# Altium footprint library LDO.PcbLib: 100 footprints (part 2 of 7)
Each footprint in its own frame and in the unit in brackets; x right, y up, seen from the top. Pads: shape width x height; smd on the part's side, far side on the other; paste and mask are expansions set on the pad; w line width, h text height; cw(c..) or ccw(c..) is an arc to the next point about the centre after c.
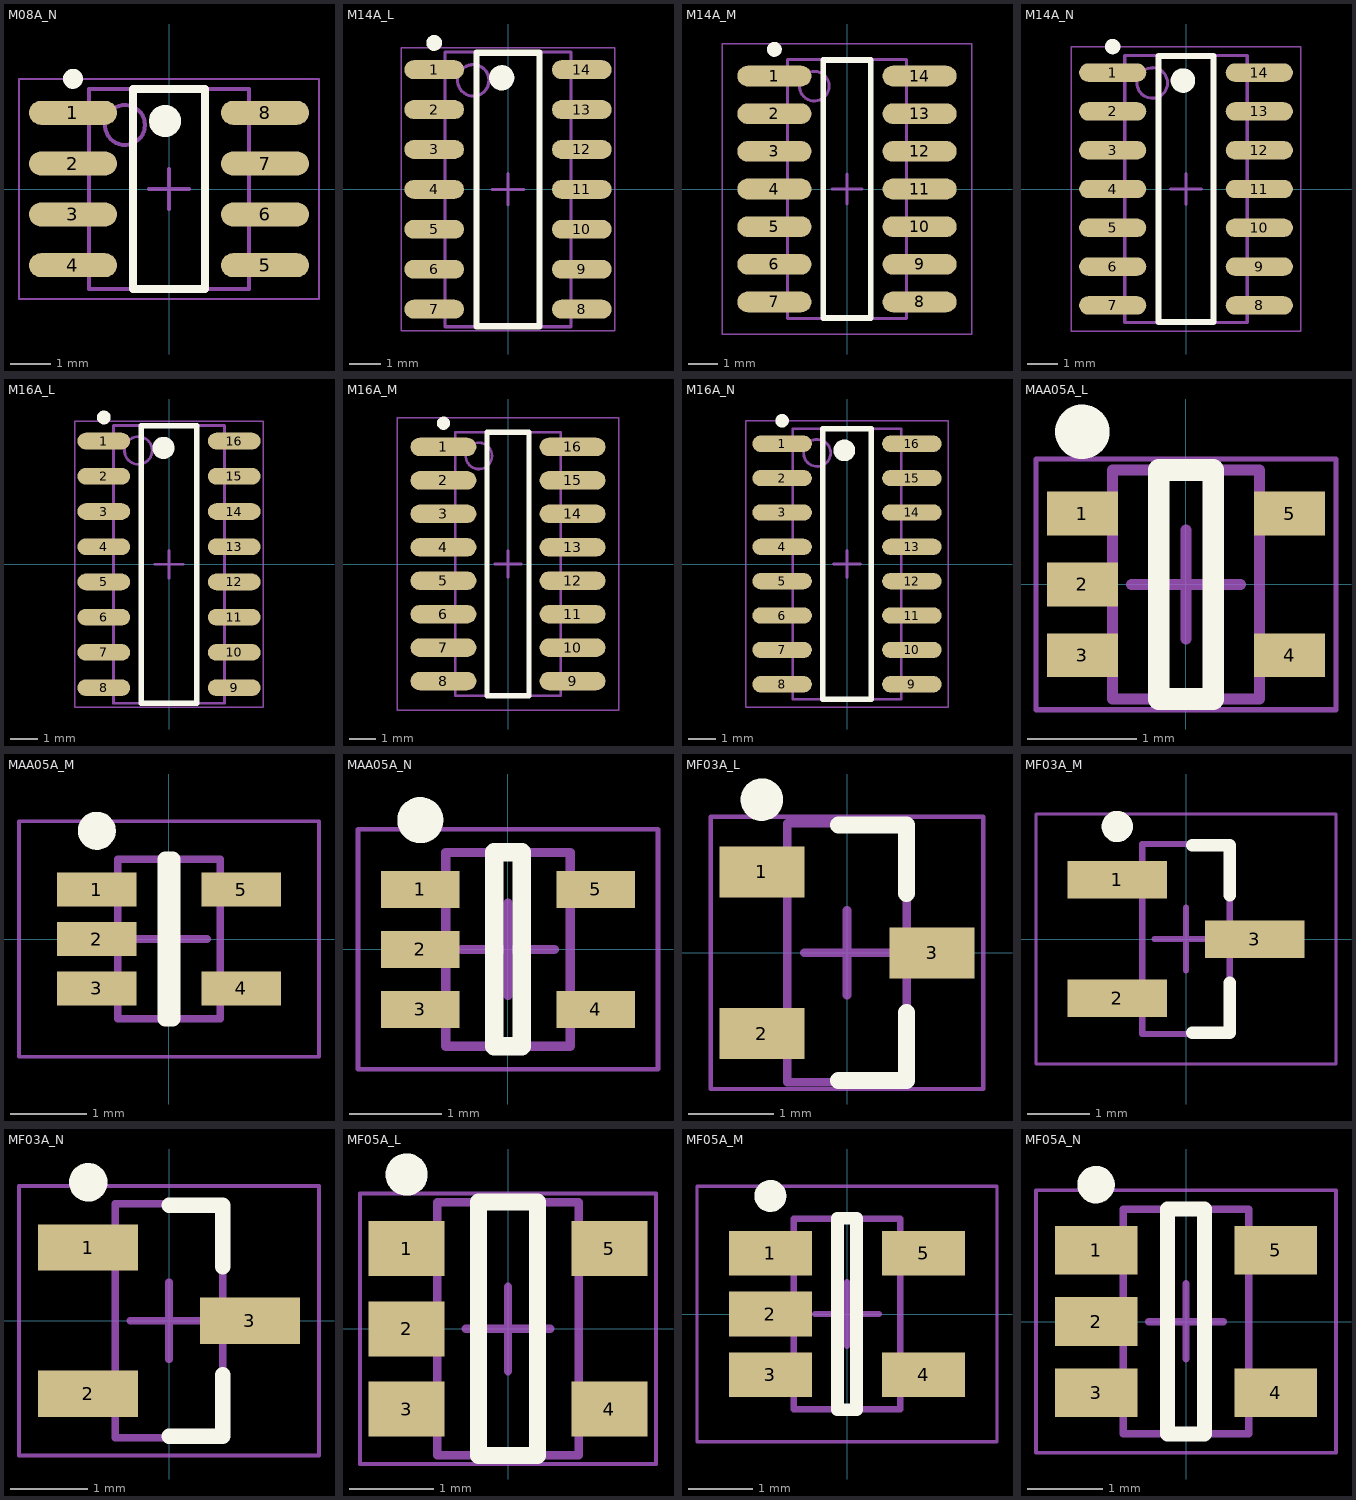
[diagram p1: the footprints below, top view; thin cyan lines are the x and y axes]

## M08A_N [mm] "SOIC, 8-Leads, Body 4.9x3.9mm, Pitch 1.27mm, IPC Medium Density"
height 1.75
pads (8):
  oval 2.2x0.6 smd: 1(-2.4,1.905) 2(-2.4,0.635) 3(-2.4,-0.635) 4(-2.4,-1.905) 5(2.4,-1.905) 6(2.4,-0.635) 7(2.4,0.635) 8(2.4,1.905)
Top Overlay:
  circle w0.25: c-2.4,2.755 r0.125
  circle w0.4: c-0.1,1.7 r0.2
  lines w0.2: -0.9,-2.5 -0.9,2.5 0.9,2.5 0.9,-2.5 -0.9,-2.5
Mechanical 13:
  circle w0.1: c-1.1,1.6 r0.5
  lines w0.1: -2,-2.5 -2,2.5 2,2.5 2,-2.5 -2,-2.5
Mechanical 15:
  lines w0.05: -3.75,-2.75 -3.75,2.75 3.75,2.75 3.75,-2.75 -3.75,-2.75
  lines w0.1: -0.5,0 0.5,0 ; 0,-0.5 0,0.5
3D body: height 1.75, standoff 0.1, extent -2,-2.5 2,2.5

## M14A_L [mm] "SOIC, 14-Leads, Body 8.6x3.9mm, Pitch 1.27mm, IPC High Density"
height 1.75
pads (14):
  oval 1.9x0.6 smd: 1(-2.35,3.81) 2(-2.35,2.54) 3(-2.35,1.27) 4(-2.35,0) 5(-2.35,-1.27) 6(-2.35,-2.54) 7(-2.35,-3.81) 8(2.35,-3.81) 9(2.35,-2.54) 10(2.35,-1.27) 11(2.35,0) 12(2.35,1.27) 13(2.35,2.54) 14(2.35,3.81)
Top Overlay:
  circle w0.4: c-0.2,3.55 r0.2
  circle w0.25: c-2.35,4.66 r0.125
  lines w0.2: -1,-4.35 1,-4.35 1,4.35 -1,4.35 -1,-4.35
Mechanical 13:
  circle w0.1: c-1.105,3.47 r0.5
  lines w0.1: -2.005,-4.37 2.005,-4.37 2.005,4.37 -2.005,4.37 -2.005,-4.37
Mechanical 15:
  lines w0.05: -3.4,-4.5 3.4,-4.5 3.4,4.5 -3.4,4.5 -3.4,-4.5
  lines w0.1: -0.5,0 0.5,0 ; 0,-0.5 0,0.5
3D body: height 1.75, standoff 0.1, extent -2.005,-4.37 2.005,4.37

## M14A_M [mm] "SOIC, 14-Leads, Body 8.6x3.9mm, Pitch 1.27mm, IPC Low Density"
height 1.75
pads (14):
  oval 2.5x0.7 smd: 1(-2.45,3.81) 2(-2.45,2.54) 3(-2.45,1.27) 4(-2.45,0) 5(-2.45,-1.27) 6(-2.45,-2.54) 7(-2.45,-3.81) 8(2.45,-3.81) 9(2.45,-2.54) 10(2.45,-1.27) 11(2.45,0) 12(2.45,1.27) 13(2.45,2.54) 14(2.45,3.81)
Top Overlay:
  circle w0.25: c-2.45,4.71 r0.125
  lines w0.2: -0.8,-4.35 0.8,-4.35 0.8,4.35 -0.8,4.35 -0.8,-4.35
Mechanical 13:
  circle w0.1: c-1.105,3.47 r0.5
  lines w0.1: -2.005,-4.37 2.005,-4.37 2.005,4.37 -2.005,4.37 -2.005,-4.37
Mechanical 15:
  lines w0.05: -4.2,-4.9 4.2,-4.9 4.2,4.9 -4.2,4.9 -4.2,-4.9
  lines w0.1: -0.5,0 0.5,0 ; 0,-0.5 0,0.5
3D body: height 1.75, standoff 0.1, extent -2.005,-4.37 2.005,4.37

## M14A_N [mm] "SOIC, 14-Leads, Body 8.6x3.9mm, Pitch 1.27mm, IPC Medium Density"
height 1.75
pads (14):
  oval 2.2x0.6 smd: 1(-2.4,3.81) 2(-2.4,2.54) 3(-2.4,1.27) 4(-2.4,0) 5(-2.4,-1.27) 6(-2.4,-2.54) 7(-2.4,-3.81) 8(2.4,-3.81) 9(2.4,-2.54) 10(2.4,-1.27) 11(2.4,0) 12(2.4,1.27) 13(2.4,2.54) 14(2.4,3.81)
Top Overlay:
  circle w0.4: c-0.1,3.55 r0.2
  circle w0.25: c-2.4,4.66 r0.125
  lines w0.2: -0.9,-4.35 0.9,-4.35 0.9,4.35 -0.9,4.35 -0.9,-4.35
Mechanical 13:
  circle w0.1: c-1.105,3.47 r0.5
  lines w0.1: -2.005,-4.37 2.005,-4.37 2.005,4.37 -2.005,4.37 -2.005,-4.37
Mechanical 15:
  lines w0.05: -3.75,-4.65 3.75,-4.65 3.75,4.65 -3.75,4.65 -3.75,-4.65
  lines w0.1: -0.5,0 0.5,0 ; 0,-0.5 0,0.5
3D body: height 1.75, standoff 0.1, extent -2.005,-4.37 2.005,4.37

## M16A_L [mm] "SOIC, 16-Leads, Body 9.9x3.9mm, Pitch 1.27mm, IPC High Density"
height 1.75
pads (16):
  oval 1.9x0.6 smd: 1(-2.35,4.445) 2(-2.35,3.175) 3(-2.35,1.905) 4(-2.35,0.635) 5(-2.35,-0.635) 6(-2.35,-1.905) 7(-2.35,-3.175) 8(-2.35,-4.445) 9(2.35,-4.445) 10(2.35,-3.175) 11(2.35,-1.905) 12(2.35,-0.635) 13(2.35,0.635) 14(2.35,1.905) 15(2.35,3.175) 16(2.35,4.445)
Top Overlay:
  circle w0.25: c-2.35,5.295 r0.125
  circle w0.4: c-0.2,4.2 r0.2
  lines w0.2: -1,-5 -1,5 1,5 1,-5 -1,-5
Mechanical 13:
  circle w0.1: c-1.105,4.105 r0.5
  lines w0.1: -2.005,-5.005 -2.005,5.005 2.005,5.005 2.005,-5.005 -2.005,-5.005
Mechanical 15:
  lines w0.05: -3.4,-5.15 -3.4,5.15 3.4,5.15 3.4,-5.15 -3.4,-5.15
  lines w0.1: -0.5,0 0.5,0 ; 0,-0.5 0,0.5
3D body: height 1.75, standoff 0.1, extent -2.005,-5.005 2.005,5.005

## M16A_M [mm] "SOIC, 16-Leads, Body 9.9x3.9mm, Pitch 1.27mm, IPC Low Density"
height 1.75
pads (16):
  oval 2.5x0.7 smd: 1(-2.45,4.445) 2(-2.45,3.175) 3(-2.45,1.905) 4(-2.45,0.635) 5(-2.45,-0.635) 6(-2.45,-1.905) 7(-2.45,-3.175) 8(-2.45,-4.445) 9(2.45,-4.445) 10(2.45,-3.175) 11(2.45,-1.905) 12(2.45,-0.635) 13(2.45,0.635) 14(2.45,1.905) 15(2.45,3.175) 16(2.45,4.445)
Top Overlay:
  circle w0.25: c-2.45,5.345 r0.125
  lines w0.2: -0.8,-5 -0.8,5 0.8,5 0.8,-5 -0.8,-5
Mechanical 13:
  circle w0.1: c-1.105,4.105 r0.5
  lines w0.1: -2.005,-5.005 -2.005,5.005 2.005,5.005 2.005,-5.005 -2.005,-5.005
Mechanical 15:
  lines w0.05: -4.2,-5.55 -4.2,5.55 4.2,5.55 4.2,-5.55 -4.2,-5.55
  lines w0.1: -0.5,0 0.5,0 ; 0,-0.5 0,0.5
3D body: height 1.75, standoff 0.1, extent -2.005,-5.005 2.005,5.005

## M16A_N [mm] "SOIC, 16-Leads, Body 9.9x3.9mm, Pitch 1.27mm, IPC Medium Density"
height 1.75
pads (16):
  oval 2.2x0.6 smd: 1(-2.4,4.445) 2(-2.4,3.175) 3(-2.4,1.905) 4(-2.4,0.635) 5(-2.4,-0.635) 6(-2.4,-1.905) 7(-2.4,-3.175) 8(-2.4,-4.445) 9(2.4,-4.445) 10(2.4,-3.175) 11(2.4,-1.905) 12(2.4,-0.635) 13(2.4,0.635) 14(2.4,1.905) 15(2.4,3.175) 16(2.4,4.445)
Top Overlay:
  circle w0.25: c-2.4,5.295 r0.125
  circle w0.4: c-0.1,4.2 r0.2
  lines w0.2: -0.9,-5 -0.9,5 0.9,5 0.9,-5 -0.9,-5
Mechanical 13:
  circle w0.1: c-1.105,4.105 r0.5
  lines w0.1: -2.005,-5.005 -2.005,5.005 2.005,5.005 2.005,-5.005 -2.005,-5.005
Mechanical 15:
  lines w0.05: -3.75,-5.3 -3.75,5.3 3.75,5.3 3.75,-5.3 -3.75,-5.3
  lines w0.1: -0.5,0 0.5,0 ; 0,-0.5 0,0.5
3D body: height 1.75, standoff 0.1, extent -2.005,-5.005 2.005,5.005

## MAA05A_L [mm] "SOT353, 5-Leads, Body 2x1.3mm, Pitch 0.65mm, Lead Span 2.1mm, IPC High Density"
height 1.1
pads (5):
  rect 0.65x0.4 smd: 1(-0.95,0.65) 2(-0.95,0) 3(-0.95,-0.65) 4(0.95,-0.65) 5(0.95,0.65)
Top Overlay:
  circle w0.25: c-0.95,1.4 r0.125
  lines w0.2: -0.25,-1.05 -0.25,1.05 0.25,1.05 0.25,-1.05 -0.25,-1.05
Mechanical 13:
  lines w0.1: -0.675,-1.05 0.675,-1.05 0.675,1.05 -0.675,1.05 -0.675,-1.05
Mechanical 15:
  lines w0.05: -1.375,-1.15 1.375,-1.15 1.375,1.15 -1.375,1.15 -1.375,-1.15
  lines w0.1: -0.5,0 0.5,0 ; 0,-0.5 0,0.5
3D body: height 1.1, standoff 0, extent -0.675,-1.05 0.675,1.05

## MAA05A_M [mm] "SOT353, 5-Leads, Body 2x1.3mm, Pitch 0.65mm, Lead Span 2.1mm, IPC Low Density"
height 1.1
pads (5):
  rect 1.05x0.45 smd: 1(-0.95,0.65) 2(-0.95,0) 3(-0.95,-0.65) 4(0.95,-0.65) 5(0.95,0.65)
Top Overlay:
  circle w0.25: c-0.95,1.425 r0.125
  lines w0.2: -0.05,-1.05 -0.05,1.05 0.05,1.05 0.05,-1.05 -0.05,-1.05
Mechanical 13:
  lines w0.1: -0.675,-1.05 0.675,-1.05 0.675,1.05 -0.675,1.05 -0.675,-1.05
Mechanical 15:
  lines w0.05: -1.975,-1.55 1.975,-1.55 1.975,1.55 -1.975,1.55 -1.975,-1.55
  lines w0.1: -0.5,0 0.5,0 ; 0,-0.5 0,0.5
3D body: height 1.1, standoff 0, extent -0.675,-1.05 0.675,1.05

## MAA05A_N [mm] "SOT353, 5-Leads, Body 2x1.3mm, Pitch 0.65mm, Lead Span 2.1mm, IPC Medium Density"
height 1.1
pads (5):
  rect 0.85x0.4 smd: 1(-0.95,0.65) 2(-0.95,0) 3(-0.95,-0.65) 4(0.95,-0.65) 5(0.95,0.65)
Top Overlay:
  circle w0.25: c-0.95,1.4 r0.125
  lines w0.2: -0.15,-1.05 0.15,-1.05 0.15,1.05 -0.15,1.05 -0.15,-1.05
Mechanical 13:
  lines w0.1: -0.675,-1.05 -0.675,1.05 0.675,1.05 0.675,-1.05 -0.675,-1.05
Mechanical 15:
  lines w0.05: -1.625,-1.3 -1.625,1.3 1.625,1.3 1.625,-1.3 -1.625,-1.3
  lines w0.1: -0.5,0 0.5,0 ; 0,-0.5 0,0.5
3D body: height 1.1, standoff 0, extent -0.675,-1.05 0.675,1.05

## MF03A_L [mm] "SOT23, 3-Leads, Body 2.9x1.3mm, Pitch 0.95mm, Lead Span 2.4mm, IPC High Density"
height 1.12
pads (3):
  rect 1x0.6 smd: 1(-1,0.95) 2(-1,-0.95) 3(1,0)
Top Overlay:
  circle w0.25: c-1,1.8 r0.125
  lines w0.2: -0.1,-1.5 0.7,-1.5 0.7,-0.7 ; -0.1,1.5 0.7,1.5 0.7,0.7
Mechanical 13:
  lines w0.1: -0.7,-1.52 0.7,-1.52 0.7,1.52 -0.7,1.52 -0.7,-1.52
Mechanical 15:
  lines w0.05: -1.6,-1.6 1.6,-1.6 1.6,1.6 -1.6,1.6 -1.6,-1.6
  lines w0.1: -0.5,0 0.5,0 ; 0,-0.5 0,0.5
3D body: height 1.12, standoff 0.03, extent -0.7,-1.52 0.7,1.52

## MF03A_M [mm] "SOT23, 3-Leads, Body 2.9x1.3mm, Pitch 0.95mm, Lead Span 2.4mm, IPC Low Density"
height 1.12
pads (3):
  rect 1.6x0.6 smd: 1(-1.1,0.95) 2(-1.1,-0.95) 3(1.1,0)
Top Overlay:
  circle w0.25: c-1.1,1.8 r0.125
  lines w0.2: 0.1,-1.5 0.7,-1.5 0.7,-0.7 ; 0.1,1.5 0.7,1.5 0.7,0.7
Mechanical 13:
  lines w0.1: -0.7,-1.52 -0.7,1.52 0.7,1.52 0.7,-1.52 -0.7,-1.52
Mechanical 15:
  lines w0.05: -2.4,-2 -2.4,2 2.4,2 2.4,-2 -2.4,-2
  lines w0.1: -0.5,0 0.5,0 ; 0,-0.5 0,0.5
3D body: height 1.12, standoff 0.03, extent -0.7,-1.52 0.7,1.52

## MF03A_N [mm] "SOT23, 3-Leads, Body 2.9x1.3mm, Pitch 0.95mm, Lead Span 2.4mm, IPC Medium Density"
height 1.12
pads (3):
  rect 1.3x0.6 smd: 1(-1.05,0.95) 2(-1.05,-0.95) 3(1.05,0)
Top Overlay:
  circle w0.25: c-1.05,1.8 r0.125
  lines w0.2: 0,-1.5 0.7,-1.5 0.7,-0.7 ; 0,1.5 0.7,1.5 0.7,0.7
Mechanical 13:
  lines w0.1: -0.7,-1.52 0.7,-1.52 0.7,1.52 -0.7,1.52 -0.7,-1.52
Mechanical 15:
  lines w0.05: -1.95,-1.75 1.95,-1.75 1.95,1.75 -1.95,1.75 -1.95,-1.75
  lines w0.1: -0.5,0 0.5,0 ; 0,-0.5 0,0.5
3D body: height 1.12, standoff 0.03, extent -0.7,-1.52 0.7,1.52

## MF05A_L [mm] "SOT23, 5-Leads, Body 2.9x1.6mm, Pitch 0.95mm, Lead Span 2.8mm, IPC High Density"
height 1.19
pads (5):
  rect 0.9x0.65 smd: 1(-1.2,0.95) 2(-1.2,0) 3(-1.2,-0.95) 4(1.2,-0.95) 5(1.2,0.95)
Top Overlay:
  circle w0.25: c-1.2,1.825 r0.125
  lines w0.2: -0.35,-1.5 -0.35,1.5 0.35,1.5 0.35,-1.5 -0.35,-1.5
Mechanical 13:
  lines w0.1: -0.835,-1.495 0.835,-1.495 0.835,1.495 -0.835,1.495 -0.835,-1.495
Mechanical 15:
  lines w0.05: -1.75,-1.6 1.75,-1.6 1.75,1.6 -1.75,1.6 -1.75,-1.6
  lines w0.1: -0.5,0 0.5,0 ; 0,-0.5 0,0.5
3D body: height 1.19, standoff 0.05, extent -0.835,-1.495 0.835,1.495

## MF05A_M [mm] "SOT23, 5-Leads, Body 2.9x1.6mm, Pitch 0.95mm, Lead Span 2.8mm, IPC Low Density"
height 1.19
pads (5):
  rect 1.3x0.7 smd: 1(-1.2,0.95) 2(-1.2,0) 3(-1.2,-0.95) 4(1.2,-0.95) 5(1.2,0.95)
Top Overlay:
  circle w0.25: c-1.2,1.85 r0.125
  lines w0.2: -0.15,-1.5 -0.15,1.5 0.15,1.5 0.15,-1.5 -0.15,-1.5
Mechanical 13:
  lines w0.1: -0.835,-1.495 0.835,-1.495 0.835,1.495 -0.835,1.495 -0.835,-1.495
Mechanical 15:
  lines w0.05: -2.35,-2 2.35,-2 2.35,2 -2.35,2 -2.35,-2
  lines w0.1: -0.5,0 0.5,0 ; 0,-0.5 0,0.5
3D body: height 1.19, standoff 0.05, extent -0.835,-1.495 0.835,1.495

## MF05A_N [mm] "SOT23, 5-Leads, Body 2.9x1.6mm, Pitch 0.95mm, Lead Span 2.8mm, IPC Medium Density"
height 1.19
pads (5):
  rect 1.1x0.65 smd: 1(-1.2,0.95) 2(-1.2,0) 3(-1.2,-0.95) 4(1.2,-0.95) 5(1.2,0.95)
Top Overlay:
  circle w0.25: c-1.2,1.825 r0.125
  lines w0.2: -0.25,-1.5 -0.25,1.5 0.25,1.5 0.25,-1.5 -0.25,-1.5
Mechanical 13:
  lines w0.1: -0.835,-1.495 0.835,-1.495 0.835,1.495 -0.835,1.495 -0.835,-1.495
Mechanical 15:
  lines w0.05: -2,-1.75 2,-1.75 2,1.75 -2,1.75 -2,-1.75
  lines w0.1: -0.5,0 0.5,0 ; 0,-0.5 0,0.5
3D body: height 1.19, standoff 0.05, extent -0.835,-1.495 0.835,1.495